# Altium integrated library XL4015.IntLib: 1 symbol
Pins are listed as number, name and electrical type; pins without a type are passive.

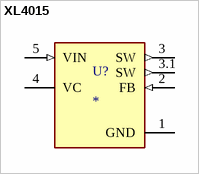
[diagram p0: symbol XL4015]

## XL4015
designator U?
5A 180KHz 36V Buck DC to DC Converter; MF: XLSEMI; MP: XL4015; SnapEDA_Link: https://www.snapeda.com/parts/XL4015/XLSEMI/view-part/?ref=snap; Package: None; Value: *; Check_prices: https://www.snapeda.com/parts/XL4015/XLSEMI/view-part/?ref=eda
footprint CONV_XL4015
pins: 1 GND (power), 2 FB (in), 3 SW (out), 3.1 SW (out), 4 VC, 5 VIN (in)